# Altium schematic symbol library kmilo17pet-NSC_Interface.SchLib: 1433 symbols (part 36 of 51)
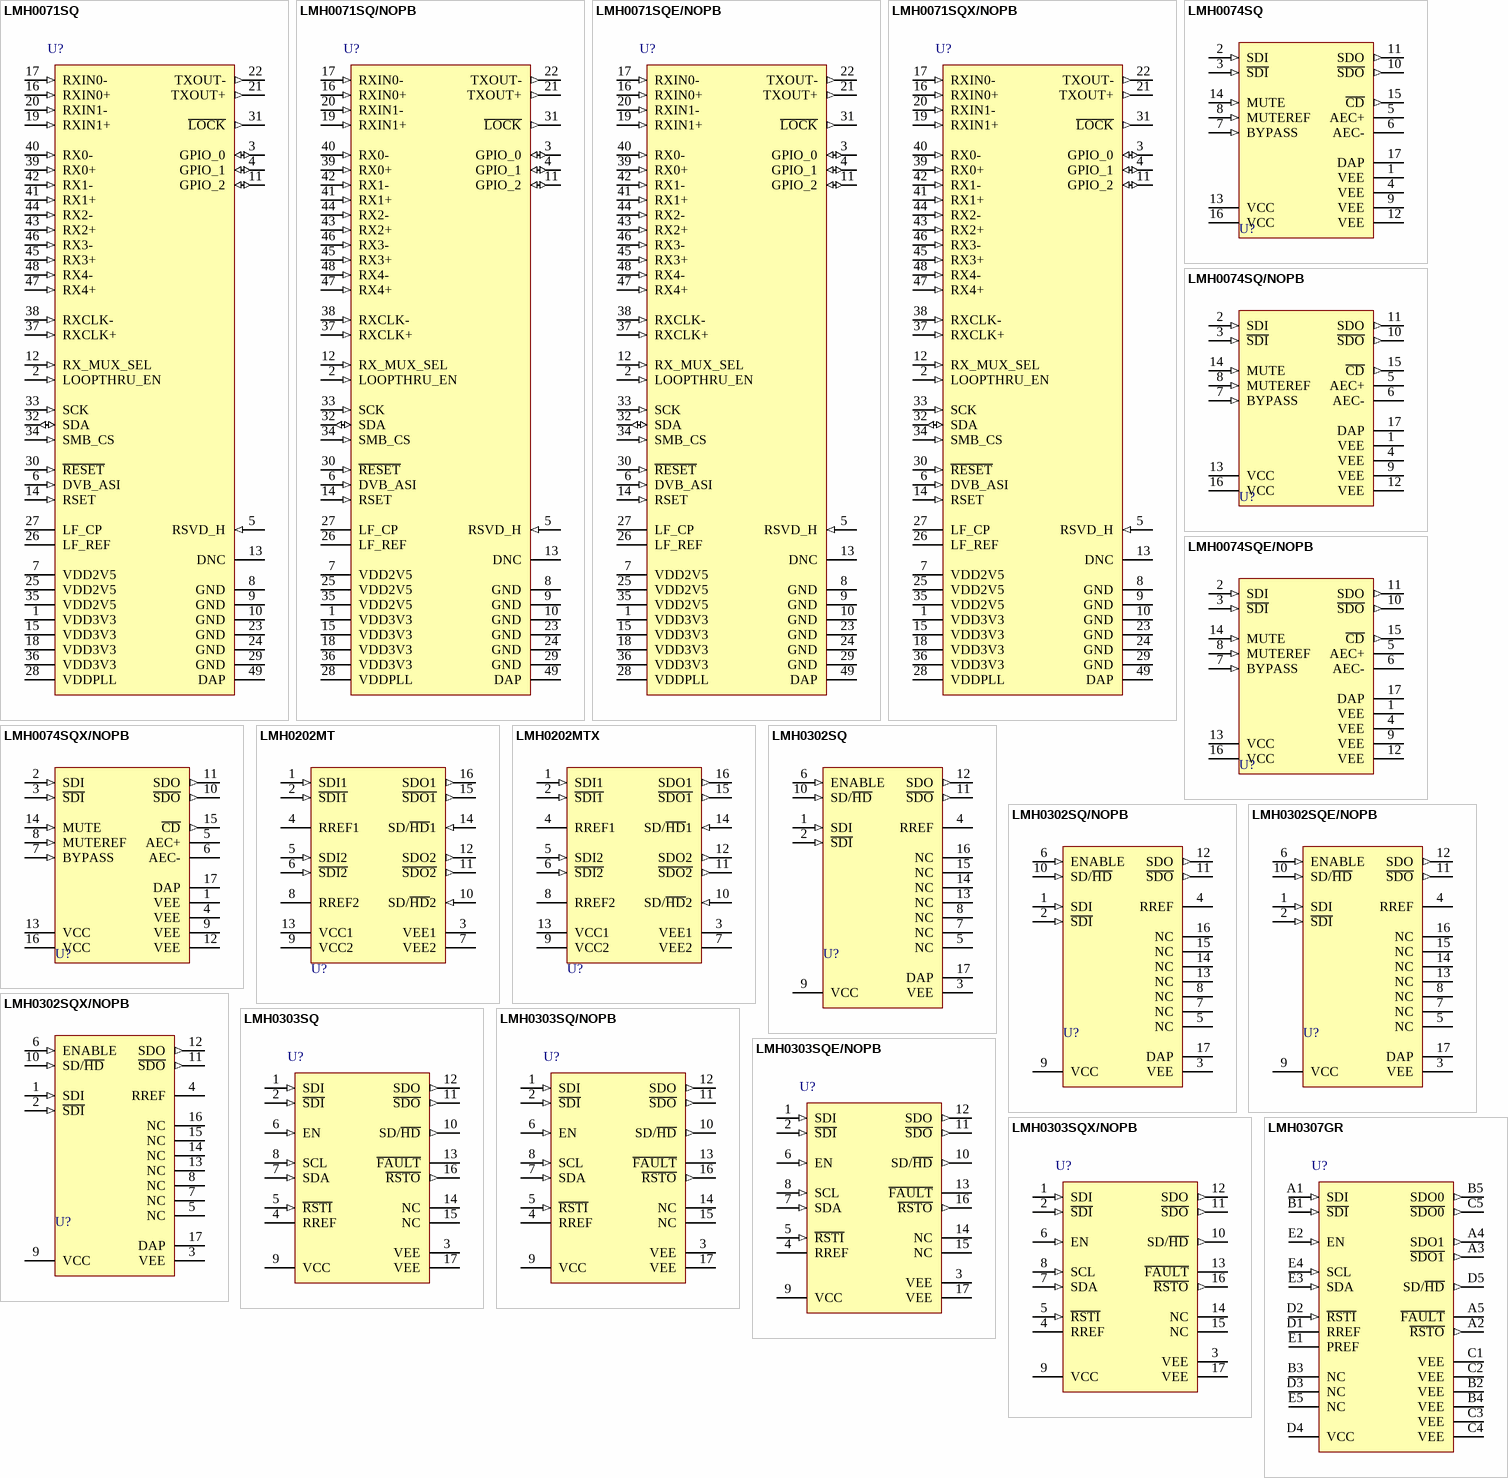
[diagram p159: symbols LMH0071SQ to LMH0307GR]

## LMH0303SQ/NOPB
designator U?
3 Gbps HD/SD SDI Cable Driver with Cable Detect, 16-pin LLP, Pb-Free; PartNumber: LMH0303SQ/NOPB; Manufacturer: National Semiconductor; PackageTopMarking: NS*UZXYTT*L0303; PowerWise: N; CompType: Interface IC; High-Reliability: Y; DatasheetVersion: Aug-2008; PackageVersion: revA, Dec-2005; PackageReference: SQB16A; PackageDescription: LLP, Plastic, Quad, 4 x 4 x 0.8mm, 16 Lead, 0.65mm Pitch, No Pullback; RoHS: Y; PinCount: 16; ComponentLink1Description: Manufacturer URL; ComponentLink1URL: http://www.national.com/; ComponentLink2Description: LMH0303 Datasheet; ComponentLink2URL: http://www.national.com/ds/LM/LMH0303.pdf; ComponentLink3Description: LMH0303 Web Page; ComponentLink3URL: http://www.national.com/pf/LM/LMH0303.html; ComponentLink4Description: SQB16A Package Page; ComponentLink4URL: http://www.national.com/packaging/folders/sqb16a.html
footprint SQB16A (QFN, 16-Leads, Body 4x4mm, Pitch 0.65mm, Thermal Pad 2.6x2.6mm, NSC Recommended)
pins: 1 SDI (in), 2 ~{SDI} (in), 3 VEE (power), 4 RREF, 5 ~{RSTI} (in), 6 EN (in), 7 SDA (in), 8 SCL (in), 9 VCC (power), 10 SD/~{HD} (out), 11 ~{SDO} (out), 12 SDO (out), 13 ~{FAULT}, 14 NC, 15 NC, 16 ~{RSTO} (out), 17 VEE (power)

## LMH0303SQE/NOPB
designator U?
3 Gbps HD/SD SDI Cable Driver with Cable Detect, 16-pin LLP, Pb-Free; PartNumber: LMH0303SQE/NOPB; Manufacturer: National Semiconductor; PackageTopMarking: NS*UZXYTT*L0303; PowerWise: N; CompType: Interface IC; High-Reliability: Y; DatasheetVersion: Aug-2008; PackageVersion: revA, Dec-2005; PackageReference: SQB16A; PackageDescription: LLP, Plastic, Quad, 4 x 4 x 0.8mm, 16 Lead, 0.65mm Pitch, No Pullback; RoHS: Y; PinCount: 16; ComponentLink1Description: Manufacturer URL; ComponentLink1URL: http://www.national.com/; ComponentLink2Description: LMH0303 Datasheet; ComponentLink2URL: http://www.national.com/ds/LM/LMH0303.pdf; ComponentLink3Description: LMH0303 Web Page; ComponentLink3URL: http://www.national.com/pf/LM/LMH0303.html; ComponentLink4Description: SQB16A Package Page; ComponentLink4URL: http://www.national.com/packaging/folders/sqb16a.html
footprint SQB16A (QFN, 16-Leads, Body 4x4mm, Pitch 0.65mm, Thermal Pad 2.6x2.6mm, NSC Recommended)
pins: 1 SDI (in), 2 ~{SDI} (in), 3 VEE (power), 4 RREF, 5 ~{RSTI} (in), 6 EN (in), 7 SDA (in), 8 SCL (in), 9 VCC (power), 10 SD/~{HD} (out), 11 ~{SDO} (out), 12 SDO (out), 13 ~{FAULT}, 14 NC, 15 NC, 16 ~{RSTO} (out), 17 VEE (power)

## LMH0303SQX/NOPB
designator U?
3 Gbps HD/SD SDI Cable Driver with Cable Detect, 16-pin LLP, Pb-Free; PartNumber: LMH0303SQX/NOPB; Manufacturer: National Semiconductor; PackageTopMarking: NS*UZXYTT*L0303; PowerWise: N; CompType: Interface IC; High-Reliability: Y; DatasheetVersion: Aug-2008; PackageVersion: revA, Dec-2005; PackageReference: SQB16A; PackageDescription: LLP, Plastic, Quad, 4 x 4 x 0.8mm, 16 Lead, 0.65mm Pitch, No Pullback; RoHS: Y; PinCount: 16; ComponentLink1Description: Manufacturer URL; ComponentLink1URL: http://www.national.com/; ComponentLink2Description: LMH0303 Datasheet; ComponentLink2URL: http://www.national.com/ds/LM/LMH0303.pdf; ComponentLink3Description: LMH0303 Web Page; ComponentLink3URL: http://www.national.com/pf/LM/LMH0303.html; ComponentLink4Description: SQB16A Package Page; ComponentLink4URL: http://www.national.com/packaging/folders/sqb16a.html
footprint SQB16A (QFN, 16-Leads, Body 4x4mm, Pitch 0.65mm, Thermal Pad 2.6x2.6mm, NSC Recommended)
pins: 1 SDI (in), 2 ~{SDI} (in), 3 VEE (power), 4 RREF, 5 ~{RSTI} (in), 6 EN (in), 7 SDA (in), 8 SCL (in), 9 VCC (power), 10 SD/~{HD} (out), 11 ~{SDO} (out), 12 SDO (out), 13 ~{FAULT}, 14 NC, 15 NC, 16 ~{RSTO} (out), 17 VEE (power)

## LMH0307GR
designator U?
3 Gbps HD/SD SDI Dual Output Cable Driver with Cable Detect, 25-pin Micro-Array; PartNumber: LMH0307GR; Manufacturer: National Semiconductor; PackageTopMarking: XYTT*307G; PowerWise: N; CompType: Interface IC; High-Reliability: Y; DatasheetVersion: Jan-2009; PackageVersion: revA, Mar-2004; PackageReference: GRA25A; PackageDescription: Micro-Array, 3x3x1mm Body, 25 Ball, 0.5mm Pitch; RoHS: Y; PinCount: 25; ComponentLink1Description: Manufacturer URL; ComponentLink1URL: http://www.national.com/; ComponentLink2Description: LMH0307 Datasheet; ComponentLink2URL: http://www.national.com/ds/LM/LMH0307.pdf; ComponentLink3Description: LMH0307 Web Page; ComponentLink3URL: http://www.national.com/pf/LM/LMH0307.html; ComponentLink4Description: GRA25A Package Page; ComponentLink4URL: http://www.national.com/packaging/folders/gra25a.html
footprint GRA25A (BGA, 25-Leads, Body 3x3mm, Pitch 0.5mm, NSC Recommended)
pins: A1 SDI (in), A2 ~{RSTO} (out), A3 ~{SDO1} (out), A4 SDO1 (out), A5 ~{FAULT}, B1 ~{SDI} (in), B2 VEE (power), B3 NC, B4 VEE (power), B5 SDO0 (out), C1 VEE (power), C2 VEE (power), C3 VEE (power), C4 VEE (power), C5 ~{SDO0} (out), D1 RREF, D2 ~{RSTI} (in), D3 NC, D4 VCC (power), D5 SD/~{HD} (out), E1 PREF, E2 EN (in), E3 SDA (in), E4 SCL (in), E5 NC

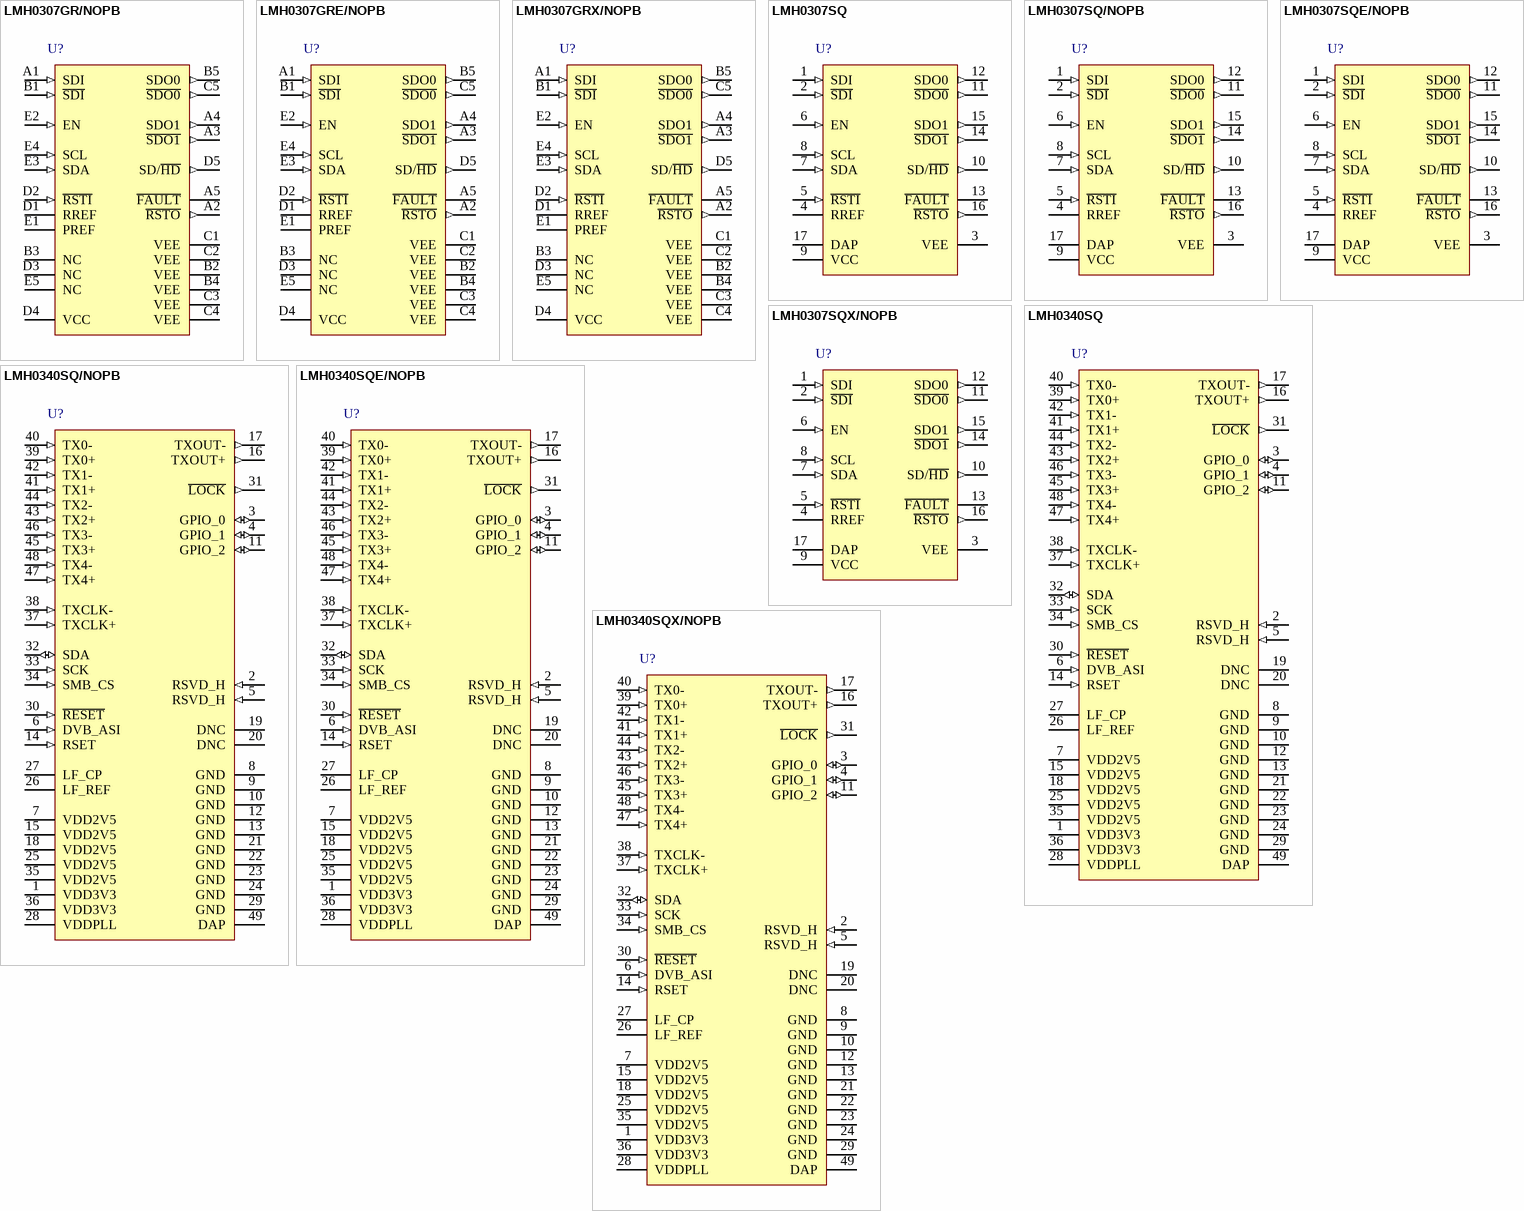
[diagram p88: symbols LMH0307GR/NOPB to LMH0340SQX/NOPB]

## LMH0307GR/NOPB
designator U?
3 Gbps HD/SD SDI Dual Output Cable Driver with Cable Detect, 25-pin Micro-Array, Pb-Free; PartNumber: LMH0307GR/NOPB; Manufacturer: National Semiconductor; PackageTopMarking: XYTT*307G; PowerWise: N; CompType: Interface IC; High-Reliability: Y; DatasheetVersion: Jan-2009; PackageVersion: revA, Mar-2004; PackageReference: GRA25A; PackageDescription: Micro-Array, 3x3x1mm Body, 25 Ball, 0.5mm Pitch; RoHS: Y; PinCount: 25; ComponentLink1Description: Manufacturer URL; ComponentLink1URL: http://www.national.com/; ComponentLink2Description: LMH0307 Datasheet; ComponentLink2URL: http://www.national.com/ds/LM/LMH0307.pdf; ComponentLink3Description: LMH0307 Web Page; ComponentLink3URL: http://www.national.com/pf/LM/LMH0307.html; ComponentLink4Description: GRA25A Package Page; ComponentLink4URL: http://www.national.com/packaging/folders/gra25a.html
footprint GRA25A (BGA, 25-Leads, Body 3x3mm, Pitch 0.5mm, NSC Recommended)
pins: A1 SDI (in), A2 ~{RSTO} (out), A3 ~{SDO1} (out), A4 SDO1 (out), A5 ~{FAULT}, B1 ~{SDI} (in), B2 VEE (power), B3 NC, B4 VEE (power), B5 SDO0 (out), C1 VEE (power), C2 VEE (power), C3 VEE (power), C4 VEE (power), C5 ~{SDO0} (out), D1 RREF, D2 ~{RSTI} (in), D3 NC, D4 VCC (power), D5 SD/~{HD} (out), E1 PREF, E2 EN (in), E3 SDA (in), E4 SCL (in), E5 NC

## LMH0307GRE/NOPB
designator U?
3 Gbps HD/SD SDI Dual Output Cable Driver with Cable Detect, 25-pin Micro-Array, Pb-Free; PartNumber: LMH0307GRE/NOPB; Manufacturer: National Semiconductor; PackageTopMarking: XYTT*307G; PowerWise: N; CompType: Interface IC; High-Reliability: Y; DatasheetVersion: Jan-2009; PackageVersion: revA, Mar-2004; PackageReference: GRA25A; PackageDescription: Micro-Array, 3x3x1mm Body, 25 Ball, 0.5mm Pitch; RoHS: Y; PinCount: 25; ComponentLink1Description: Manufacturer URL; ComponentLink1URL: http://www.national.com/; ComponentLink2Description: LMH0307 Datasheet; ComponentLink2URL: http://www.national.com/ds/LM/LMH0307.pdf; ComponentLink3Description: LMH0307 Web Page; ComponentLink3URL: http://www.national.com/pf/LM/LMH0307.html; ComponentLink4Description: GRA25A Package Page; ComponentLink4URL: http://www.national.com/packaging/folders/gra25a.html
footprint GRA25A (BGA, 25-Leads, Body 3x3mm, Pitch 0.5mm, NSC Recommended)
pins: A1 SDI (in), A2 ~{RSTO} (out), A3 ~{SDO1} (out), A4 SDO1 (out), A5 ~{FAULT}, B1 ~{SDI} (in), B2 VEE (power), B3 NC, B4 VEE (power), B5 SDO0 (out), C1 VEE (power), C2 VEE (power), C3 VEE (power), C4 VEE (power), C5 ~{SDO0} (out), D1 RREF, D2 ~{RSTI} (in), D3 NC, D4 VCC (power), D5 SD/~{HD} (out), E1 PREF, E2 EN (in), E3 SDA (in), E4 SCL (in), E5 NC

## LMH0307GRX/NOPB
designator U?
3 Gbps HD/SD SDI Dual Output Cable Driver with Cable Detect, 25-pin Micro-Array, Pb-Free; PartNumber: LMH0307GRX/NOPB; Manufacturer: National Semiconductor; PackageTopMarking: XYTT*307G; PowerWise: N; CompType: Interface IC; High-Reliability: Y; DatasheetVersion: Jan-2009; PackageVersion: revA, Mar-2004; PackageReference: GRA25A; PackageDescription: Micro-Array, 3x3x1mm Body, 25 Ball, 0.5mm Pitch; RoHS: Y; PinCount: 25; ComponentLink1Description: Manufacturer URL; ComponentLink1URL: http://www.national.com/; ComponentLink2Description: LMH0307 Datasheet; ComponentLink2URL: http://www.national.com/ds/LM/LMH0307.pdf; ComponentLink3Description: LMH0307 Web Page; ComponentLink3URL: http://www.national.com/pf/LM/LMH0307.html; ComponentLink4Description: GRA25A Package Page; ComponentLink4URL: http://www.national.com/packaging/folders/gra25a.html
footprint GRA25A (BGA, 25-Leads, Body 3x3mm, Pitch 0.5mm, NSC Recommended)
pins: A1 SDI (in), A2 ~{RSTO} (out), A3 ~{SDO1} (out), A4 SDO1 (out), A5 ~{FAULT}, B1 ~{SDI} (in), B2 VEE (power), B3 NC, B4 VEE (power), B5 SDO0 (out), C1 VEE (power), C2 VEE (power), C3 VEE (power), C4 VEE (power), C5 ~{SDO0} (out), D1 RREF, D2 ~{RSTI} (in), D3 NC, D4 VCC (power), D5 SD/~{HD} (out), E1 PREF, E2 EN (in), E3 SDA (in), E4 SCL (in), E5 NC

## LMH0307SQ
designator U?
3 Gbps HD/SD SDI Dual Output Cable Driver with Cable Detect, 16-pin LLP; PartNumber: LMH0307SQ; Manufacturer: National Semiconductor; PackageTopMarking: NS*UZXYTT*L0307; PowerWise: N; CompType: Interface IC; High-Reliability: Y; DatasheetVersion: Jan-2009; PackageVersion: revA, Dec-2005; PackageReference: SQB16A; PackageDescription: LLP, Plastic, Quad, 4 x 4 x 0.8mm, 16 Lead, 0.65mm Pitch, No Pullback; RoHS: Y; PinCount: 16; ComponentLink1Description: Manufacturer URL; ComponentLink1URL: http://www.national.com/; ComponentLink2Description: LMH0307 Datasheet; ComponentLink2URL: http://www.national.com/ds/LM/LMH0307.pdf; ComponentLink3Description: LMH0307 Web Page; ComponentLink3URL: http://www.national.com/pf/LM/LMH0307.html; ComponentLink4Description: SQB16A Package Page; ComponentLink4URL: http://www.national.com/packaging/folders/sqb16a.html
footprint SQB16A (QFN, 16-Leads, Body 4x4mm, Pitch 0.65mm, Thermal Pad 2.6x2.6mm, NSC Recommended)
pins: 1 SDI (in), 2 ~{SDI} (in), 3 VEE (power), 4 RREF, 5 ~{RSTI} (in), 6 EN (in), 7 SDA (in), 8 SCL (in), 9 VCC (power), 10 SD/~{HD} (out), 11 ~{SDO0} (out), 12 SDO0 (out), 13 ~{FAULT}, 14 ~{SDO1} (out), 15 SDO1 (out), 16 ~{RSTO} (out), 17 DAP (power)

## LMH0307SQ/NOPB
designator U?
3 Gbps HD/SD SDI Dual Output Cable Driver with Cable Detect, 16-pin LLP, Pb-Free; PartNumber: LMH0307SQ/NOPB; Manufacturer: National Semiconductor; PackageTopMarking: NS*UZXYTT*L0307; PowerWise: N; CompType: Interface IC; High-Reliability: Y; DatasheetVersion: Jan-2009; PackageVersion: revA, Dec-2005; PackageReference: SQB16A; PackageDescription: LLP, Plastic, Quad, 4 x 4 x 0.8mm, 16 Lead, 0.65mm Pitch, No Pullback; RoHS: Y; PinCount: 16; ComponentLink1Description: Manufacturer URL; ComponentLink1URL: http://www.national.com/; ComponentLink2Description: LMH0307 Datasheet; ComponentLink2URL: http://www.national.com/ds/LM/LMH0307.pdf; ComponentLink3Description: LMH0307 Web Page; ComponentLink3URL: http://www.national.com/pf/LM/LMH0307.html; ComponentLink4Description: SQB16A Package Page; ComponentLink4URL: http://www.national.com/packaging/folders/sqb16a.html
footprint SQB16A (QFN, 16-Leads, Body 4x4mm, Pitch 0.65mm, Thermal Pad 2.6x2.6mm, NSC Recommended)
pins: 1 SDI (in), 2 ~{SDI} (in), 3 VEE (power), 4 RREF, 5 ~{RSTI} (in), 6 EN (in), 7 SDA (in), 8 SCL (in), 9 VCC (power), 10 SD/~{HD} (out), 11 ~{SDO0} (out), 12 SDO0 (out), 13 ~{FAULT}, 14 ~{SDO1} (out), 15 SDO1 (out), 16 ~{RSTO} (out), 17 DAP (power)

## LMH0307SQE/NOPB
designator U?
3 Gbps HD/SD SDI Dual Output Cable Driver with Cable Detect, 16-pin LLP, Pb-Free; PartNumber: LMH0307SQE/NOPB; Manufacturer: National Semiconductor; PackageTopMarking: NS*UZXYTT*L0307; PowerWise: N; CompType: Interface IC; High-Reliability: Y; DatasheetVersion: Jan-2009; PackageVersion: revA, Dec-2005; PackageReference: SQB16A; PackageDescription: LLP, Plastic, Quad, 4 x 4 x 0.8mm, 16 Lead, 0.65mm Pitch, No Pullback; RoHS: Y; PinCount: 16; ComponentLink1Description: Manufacturer URL; ComponentLink1URL: http://www.national.com/; ComponentLink2Description: LMH0307 Datasheet; ComponentLink2URL: http://www.national.com/ds/LM/LMH0307.pdf; ComponentLink3Description: LMH0307 Web Page; ComponentLink3URL: http://www.national.com/pf/LM/LMH0307.html; ComponentLink4Description: SQB16A Package Page; ComponentLink4URL: http://www.national.com/packaging/folders/sqb16a.html
footprint SQB16A (QFN, 16-Leads, Body 4x4mm, Pitch 0.65mm, Thermal Pad 2.6x2.6mm, NSC Recommended)
pins: 1 SDI (in), 2 ~{SDI} (in), 3 VEE (power), 4 RREF, 5 ~{RSTI} (in), 6 EN (in), 7 SDA (in), 8 SCL (in), 9 VCC (power), 10 SD/~{HD} (out), 11 ~{SDO0} (out), 12 SDO0 (out), 13 ~{FAULT}, 14 ~{SDO1} (out), 15 SDO1 (out), 16 ~{RSTO} (out), 17 DAP (power)

## LMH0307SQX/NOPB
designator U?
3 Gbps HD/SD SDI Dual Output Cable Driver with Cable Detect, 16-pin LLP, Pb-Free; PartNumber: LMH0307SQX/NOPB; Manufacturer: National Semiconductor; PackageTopMarking: NS*UZXYTT*L0307; PowerWise: N; CompType: Interface IC; High-Reliability: Y; DatasheetVersion: Jan-2009; PackageVersion: revA, Dec-2005; PackageReference: SQB16A; PackageDescription: LLP, Plastic, Quad, 4 x 4 x 0.8mm, 16 Lead, 0.65mm Pitch, No Pullback; RoHS: Y; PinCount: 16; ComponentLink1Description: Manufacturer URL; ComponentLink1URL: http://www.national.com/; ComponentLink2Description: LMH0307 Datasheet; ComponentLink2URL: http://www.national.com/ds/LM/LMH0307.pdf; ComponentLink3Description: LMH0307 Web Page; ComponentLink3URL: http://www.national.com/pf/LM/LMH0307.html; ComponentLink4Description: SQB16A Package Page; ComponentLink4URL: http://www.national.com/packaging/folders/sqb16a.html
footprint SQB16A (QFN, 16-Leads, Body 4x4mm, Pitch 0.65mm, Thermal Pad 2.6x2.6mm, NSC Recommended)
pins: 1 SDI (in), 2 ~{SDI} (in), 3 VEE (power), 4 RREF, 5 ~{RSTI} (in), 6 EN (in), 7 SDA (in), 8 SCL (in), 9 VCC (power), 10 SD/~{HD} (out), 11 ~{SDO0} (out), 12 SDO0 (out), 13 ~{FAULT}, 14 ~{SDO1} (out), 15 SDO1 (out), 16 ~{RSTO} (out), 17 DAP (power)

## LMH0340SQ
designator U?
3 Gbps, HD, SD, DVB-ASI SDI Serializer and Driver with LVDS Interface, 48-pin LLP; PartNumber: LMH0340SQ; Manufacturer: National Semiconductor; PackageTopMarking: NS*UZXYTT*L0340; PowerWise: N; CompType: Interface IC; High-Reliability: Y; DatasheetVersion: Oct-2008; PackageVersion: revB, May-2009; PackageReference: SQA48A; PackageDescription: LLP, Plastic, Quad, 7 x 7 x 0.8mm Body, 48 Lead, 0.5mm Pitch, No Pullback; RoHS: Y; PinCount: 48; Code_JEDEC: MO-220-WKKD-2; ComponentLink1Description: Manufacturer URL; ComponentLink1URL: http://www.national.com/; ComponentLink2Description: LMH0340 Datasheet; ComponentLink2URL: http://www.national.com/ds/LM/LMH0340.pdf; ComponentLink3Description: LMH0340 Web Page; ComponentLink3URL: http://www.national.com/pf/LM/LMH0340.html; ComponentLink4Description: SQA48A Package Page; ComponentLink4URL: http://www.national.com/packaging/folders/sqa48a.html
footprint SQA48A (QFN, 48-Leads, Body 7x7mm, Pitch 0.5mm, Thermal Pad 5.2x5.2mm, NSC Recommended)
pins: 1 VDD3V3 (power), 2 RSVD_H (in), 3 GPIO_0 (io), 4 GPIO_1 (io), 5 RSVD_H (in), 6 DVB_ASI (in), 7 VDD2V5 (power), 8 GND (power), 9 GND (power), 10 GND (power), 11 GPIO_2 (io), 12 GND (power), 13 GND (power), 14 RSET (in), 15 VDD2V5 (power), 16 TXOUT+ (out), 17 TXOUT- (out), 18 VDD2V5 (power), 19 DNC, 20 DNC, 21 GND (power), 22 GND (power), 23 GND (power), 24 GND (power), 25 VDD2V5 (power), 26 LF_REF, 27 LF_CP, 28 VDDPLL (power), 29 GND (power), 30 ~{RESET} (in), 31 ~{LOCK} (out), 32 SDA (io), 33 SCK (in), 34 SMB_CS (in), 35 VDD2V5 (power), 36 VDD3V3 (power), 37 TXCLK+ (in), 38 TXCLK- (in), 39 TX0+ (in), 40 TX0- (in), 41 TX1+ (in), 42 TX1- (in), 43 TX2+ (in), 44 TX2- (in), 45 TX3+ (in), 46 TX3- (in), 47 TX4+ (in), 48 TX4- (in), 49 DAP (power)

## LMH0340SQ/NOPB
designator U?
3 Gbps, HD, SD, DVB-ASI SDI Serializer and Driver with LVDS Interface, 48-pin LLP, Pb-Free; PartNumber: LMH0340SQ/NOPB; Manufacturer: National Semiconductor; PackageTopMarking: NS*UZXYTTE#*L0340; PowerWise: N; CompType: Interface IC; High-Reliability: Y; DatasheetVersion: Oct-2008; PackageVersion: revB, May-2009; PackageReference: SQA48A; PackageDescription: LLP, Plastic, Quad, 7 x 7 x 0.8mm Body, 48 Lead, 0.5mm Pitch, No Pullback; RoHS: Y; PinCount: 48; Code_JEDEC: MO-220-WKKD-2; ComponentLink1Description: Manufacturer URL; ComponentLink1URL: http://www.national.com/; ComponentLink2Description: LMH0340 Datasheet; ComponentLink2URL: http://www.national.com/ds/LM/LMH0340.pdf; ComponentLink3Description: LMH0340 Web Page; ComponentLink3URL: http://www.national.com/pf/LM/LMH0340.html; ComponentLink4Description: SQA48A Package Page; ComponentLink4URL: http://www.national.com/packaging/folders/sqa48a.html
footprint SQA48A (QFN, 48-Leads, Body 7x7mm, Pitch 0.5mm, Thermal Pad 5.2x5.2mm, NSC Recommended)
pins: 1 VDD3V3 (power), 2 RSVD_H (in), 3 GPIO_0 (io), 4 GPIO_1 (io), 5 RSVD_H (in), 6 DVB_ASI (in), 7 VDD2V5 (power), 8 GND (power), 9 GND (power), 10 GND (power), 11 GPIO_2 (io), 12 GND (power), 13 GND (power), 14 RSET (in), 15 VDD2V5 (power), 16 TXOUT+ (out), 17 TXOUT- (out), 18 VDD2V5 (power), 19 DNC, 20 DNC, 21 GND (power), 22 GND (power), 23 GND (power), 24 GND (power), 25 VDD2V5 (power), 26 LF_REF, 27 LF_CP, 28 VDDPLL (power), 29 GND (power), 30 ~{RESET} (in), 31 ~{LOCK} (out), 32 SDA (io), 33 SCK (in), 34 SMB_CS (in), 35 VDD2V5 (power), 36 VDD3V3 (power), 37 TXCLK+ (in), 38 TXCLK- (in), 39 TX0+ (in), 40 TX0- (in), 41 TX1+ (in), 42 TX1- (in), 43 TX2+ (in), 44 TX2- (in), 45 TX3+ (in), 46 TX3- (in), 47 TX4+ (in), 48 TX4- (in), 49 DAP (power)

## LMH0340SQE/NOPB
designator U?
3 Gbps, HD, SD, DVB-ASI SDI Serializer and Driver with LVDS Interface, 48-pin LLP, Pb-Free; PartNumber: LMH0340SQE/NOPB; Manufacturer: National Semiconductor; PackageTopMarking: NS*UZXYTTE#*L0340; PowerWise: N; CompType: Interface IC; High-Reliability: Y; DatasheetVersion: Oct-2008; PackageVersion: revB, May-2009; PackageReference: SQA48A; PackageDescription: LLP, Plastic, Quad, 7 x 7 x 0.8mm Body, 48 Lead, 0.5mm Pitch, No Pullback; RoHS: Y; PinCount: 48; Code_JEDEC: MO-220-WKKD-2; ComponentLink1Description: Manufacturer URL; ComponentLink1URL: http://www.national.com/; ComponentLink2Description: LMH0340 Datasheet; ComponentLink2URL: http://www.national.com/ds/LM/LMH0340.pdf; ComponentLink3Description: LMH0340 Web Page; ComponentLink3URL: http://www.national.com/pf/LM/LMH0340.html; ComponentLink4Description: SQA48A Package Page; ComponentLink4URL: http://www.national.com/packaging/folders/sqa48a.html
footprint SQA48A (QFN, 48-Leads, Body 7x7mm, Pitch 0.5mm, Thermal Pad 5.2x5.2mm, NSC Recommended)
pins: 1 VDD3V3 (power), 2 RSVD_H (in), 3 GPIO_0 (io), 4 GPIO_1 (io), 5 RSVD_H (in), 6 DVB_ASI (in), 7 VDD2V5 (power), 8 GND (power), 9 GND (power), 10 GND (power), 11 GPIO_2 (io), 12 GND (power), 13 GND (power), 14 RSET (in), 15 VDD2V5 (power), 16 TXOUT+ (out), 17 TXOUT- (out), 18 VDD2V5 (power), 19 DNC, 20 DNC, 21 GND (power), 22 GND (power), 23 GND (power), 24 GND (power), 25 VDD2V5 (power), 26 LF_REF, 27 LF_CP, 28 VDDPLL (power), 29 GND (power), 30 ~{RESET} (in), 31 ~{LOCK} (out), 32 SDA (io), 33 SCK (in), 34 SMB_CS (in), 35 VDD2V5 (power), 36 VDD3V3 (power), 37 TXCLK+ (in), 38 TXCLK- (in), 39 TX0+ (in), 40 TX0- (in), 41 TX1+ (in), 42 TX1- (in), 43 TX2+ (in), 44 TX2- (in), 45 TX3+ (in), 46 TX3- (in), 47 TX4+ (in), 48 TX4- (in), 49 DAP (power)

## LMH0340SQX/NOPB
designator U?
3 Gbps, HD, SD, DVB-ASI SDI Serializer and Driver with LVDS Interface, 48-pin LLP, Pb-Free; PartNumber: LMH0340SQX/NOPB; Manufacturer: National Semiconductor; PackageTopMarking: NS*UZXYTTE#*L0340; PowerWise: N; CompType: Interface IC; High-Reliability: Y; DatasheetVersion: Oct-2008; PackageVersion: revB, May-2009; PackageReference: SQA48A; PackageDescription: LLP, Plastic, Quad, 7 x 7 x 0.8mm Body, 48 Lead, 0.5mm Pitch, No Pullback; RoHS: Y; PinCount: 48; Code_JEDEC: MO-220-WKKD-2; ComponentLink1Description: Manufacturer URL; ComponentLink1URL: http://www.national.com/; ComponentLink2Description: LMH0340 Datasheet; ComponentLink2URL: http://www.national.com/ds/LM/LMH0340.pdf; ComponentLink3Description: LMH0340 Web Page; ComponentLink3URL: http://www.national.com/pf/LM/LMH0340.html; ComponentLink4Description: SQA48A Package Page; ComponentLink4URL: http://www.national.com/packaging/folders/sqa48a.html
footprint SQA48A (QFN, 48-Leads, Body 7x7mm, Pitch 0.5mm, Thermal Pad 5.2x5.2mm, NSC Recommended)
pins: 1 VDD3V3 (power), 2 RSVD_H (in), 3 GPIO_0 (io), 4 GPIO_1 (io), 5 RSVD_H (in), 6 DVB_ASI (in), 7 VDD2V5 (power), 8 GND (power), 9 GND (power), 10 GND (power), 11 GPIO_2 (io), 12 GND (power), 13 GND (power), 14 RSET (in), 15 VDD2V5 (power), 16 TXOUT+ (out), 17 TXOUT- (out), 18 VDD2V5 (power), 19 DNC, 20 DNC, 21 GND (power), 22 GND (power), 23 GND (power), 24 GND (power), 25 VDD2V5 (power), 26 LF_REF, 27 LF_CP, 28 VDDPLL (power), 29 GND (power), 30 ~{RESET} (in), 31 ~{LOCK} (out), 32 SDA (io), 33 SCK (in), 34 SMB_CS (in), 35 VDD2V5 (power), 36 VDD3V3 (power), 37 TXCLK+ (in), 38 TXCLK- (in), 39 TX0+ (in), 40 TX0- (in), 41 TX1+ (in), 42 TX1- (in), 43 TX2+ (in), 44 TX2- (in), 45 TX3+ (in), 46 TX3- (in), 47 TX4+ (in), 48 TX4- (in), 49 DAP (power)

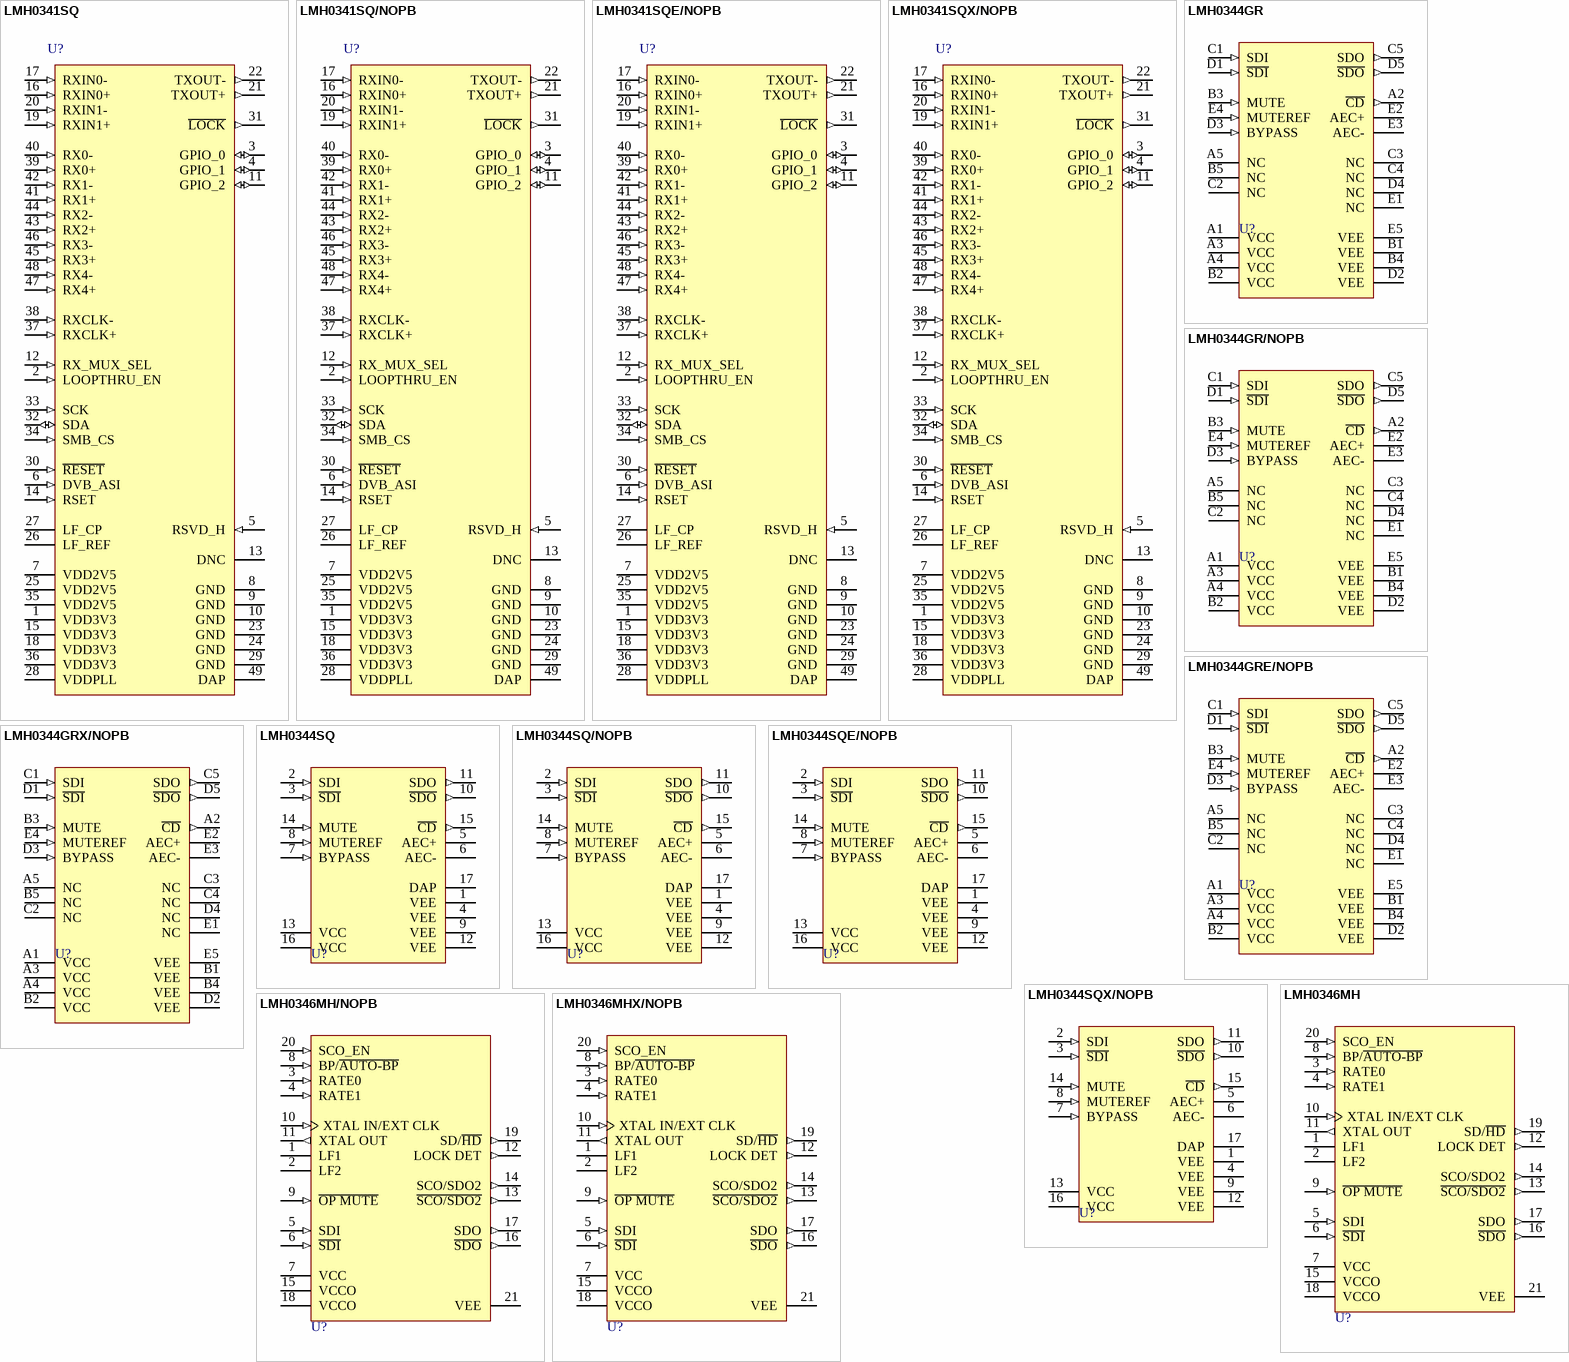
[diagram p89: symbols LMH0341SQ to LMH0346MHX/NOPB]

## LMH0341SQ
designator U?
3 Gbps, HD, SD, DVB-ASI SDI Deserializer with Loopthrough and LVDS Interface, 48-pin LLP; PartNumber: LMH0341SQ; Manufacturer: National Semiconductor; PackageTopMarking: NS*UZXYTT*L0341; PowerWise: N; CompType: Interface IC; High-Reliability: Y; DatasheetVersion: Oct-2008; PackageVersion: revB, May-2009; PackageReference: SQA48A; PackageDescription: LLP, Plastic, Quad, 7 x 7 x 0.8mm Body, 48 Lead, 0.5mm Pitch, No Pullback; RoHS: Y; PinCount: 48; Code_JEDEC: MO-220-WKKD-2; ComponentLink1Description: Manufacturer URL; ComponentLink1URL: http://www.national.com/; ComponentLink2Description: LMH0341 Datasheet; ComponentLink2URL: http://www.national.com/ds/LM/LMH0341.pdf; ComponentLink3Description: LMH0341 Web Page; ComponentLink3URL: http://www.national.com/pf/LM/LMH0341.html; ComponentLink4Description: SQA48A Package Page; ComponentLink4URL: http://www.national.com/packaging/folders/sqa48a.html
footprint SQA48A (QFN, 48-Leads, Body 7x7mm, Pitch 0.5mm, Thermal Pad 5.2x5.2mm, NSC Recommended)
pins: 1 VDD3V3 (power), 2 LOOPTHRU_EN (in), 3 GPIO_0 (io), 4 GPIO_1 (io), 5 RSVD_H (in), 6 DVB_ASI (in), 7 VDD2V5 (power), 8 GND (power), 9 GND (power), 10 GND (power), 11 GPIO_2 (io), 12 RX_MUX_SEL (in), 13 DNC, 14 RSET (in), 15 VDD3V3 (power), 16 RXIN0+ (in), 17 RXIN0- (in), 18 VDD3V3 (power), 19 RXIN1+ (in), 20 RXIN1- (in), 21 TXOUT+ (out), 22 TXOUT- (out), 23 GND (power), 24 GND (power), 25 VDD2V5 (power), 26 LF_REF, 27 LF_CP, 28 VDDPLL (power), 29 GND (power), 30 ~{RESET} (in), 31 ~{LOCK} (out), 32 SDA (io), 33 SCK (in), 34 SMB_CS (in), 35 VDD2V5 (power), 36 VDD3V3 (power), 37 RXCLK+ (in), 38 RXCLK- (in), 39 RX0+ (in), 40 RX0- (in), 41 RX1+ (in), 42 RX1- (in), 43 RX2+ (in), 44 RX2- (in), 45 RX3+ (in), 46 RX3- (in), 47 RX4+ (in), 48 RX4- (in), 49 DAP (power)

## LMH0341SQ/NOPB
designator U?
3 Gbps, HD, SD, DVB-ASI SDI Deserializer with Loopthrough and LVDS Interface, 48-pin LLP, Pb-Free; PartNumber: LMH0341SQ/NOPB; Manufacturer: National Semiconductor; PackageTopMarking: NS*UZXYTTE#*L0341; PowerWise: N; CompType: Interface IC; High-Reliability: Y; DatasheetVersion: Oct-2008; PackageVersion: revB, May-2009; PackageReference: SQA48A; PackageDescription: LLP, Plastic, Quad, 7 x 7 x 0.8mm Body, 48 Lead, 0.5mm Pitch, No Pullback; RoHS: Y; PinCount: 48; Code_JEDEC: MO-220-WKKD-2; ComponentLink1Description: Manufacturer URL; ComponentLink1URL: http://www.national.com/; ComponentLink2Description: LMH0341 Datasheet; ComponentLink2URL: http://www.national.com/ds/LM/LMH0341.pdf; ComponentLink3Description: LMH0341 Web Page; ComponentLink3URL: http://www.national.com/pf/LM/LMH0341.html; ComponentLink4Description: SQA48A Package Page; ComponentLink4URL: http://www.national.com/packaging/folders/sqa48a.html
footprint SQA48A (QFN, 48-Leads, Body 7x7mm, Pitch 0.5mm, Thermal Pad 5.2x5.2mm, NSC Recommended)
pins: 1 VDD3V3 (power), 2 LOOPTHRU_EN (in), 3 GPIO_0 (io), 4 GPIO_1 (io), 5 RSVD_H (in), 6 DVB_ASI (in), 7 VDD2V5 (power), 8 GND (power), 9 GND (power), 10 GND (power), 11 GPIO_2 (io), 12 RX_MUX_SEL (in), 13 DNC, 14 RSET (in), 15 VDD3V3 (power), 16 RXIN0+ (in), 17 RXIN0- (in), 18 VDD3V3 (power), 19 RXIN1+ (in), 20 RXIN1- (in), 21 TXOUT+ (out), 22 TXOUT- (out), 23 GND (power), 24 GND (power), 25 VDD2V5 (power), 26 LF_REF, 27 LF_CP, 28 VDDPLL (power), 29 GND (power), 30 ~{RESET} (in), 31 ~{LOCK} (out), 32 SDA (io), 33 SCK (in), 34 SMB_CS (in), 35 VDD2V5 (power), 36 VDD3V3 (power), 37 RXCLK+ (in), 38 RXCLK- (in), 39 RX0+ (in), 40 RX0- (in), 41 RX1+ (in), 42 RX1- (in), 43 RX2+ (in), 44 RX2- (in), 45 RX3+ (in), 46 RX3- (in), 47 RX4+ (in), 48 RX4- (in), 49 DAP (power)

## LMH0341SQE/NOPB
designator U?
3 Gbps, HD, SD, DVB-ASI SDI Deserializer with Loopthrough and LVDS Interface, 48-pin LLP, Pb-Free; PartNumber: LMH0341SQE/NOPB; Manufacturer: National Semiconductor; PackageTopMarking: NS*UZXYTTE#*L0341; PowerWise: N; CompType: Interface IC; High-Reliability: Y; DatasheetVersion: Oct-2008; PackageVersion: revB, May-2009; PackageReference: SQA48A; PackageDescription: LLP, Plastic, Quad, 7 x 7 x 0.8mm Body, 48 Lead, 0.5mm Pitch, No Pullback; RoHS: Y; PinCount: 48; Code_JEDEC: MO-220-WKKD-2; ComponentLink1Description: Manufacturer URL; ComponentLink1URL: http://www.national.com/; ComponentLink2Description: LMH0341 Datasheet; ComponentLink2URL: http://www.national.com/ds/LM/LMH0341.pdf; ComponentLink3Description: LMH0341 Web Page; ComponentLink3URL: http://www.national.com/pf/LM/LMH0341.html; ComponentLink4Description: SQA48A Package Page; ComponentLink4URL: http://www.national.com/packaging/folders/sqa48a.html
footprint SQA48A (QFN, 48-Leads, Body 7x7mm, Pitch 0.5mm, Thermal Pad 5.2x5.2mm, NSC Recommended)
pins: 1 VDD3V3 (power), 2 LOOPTHRU_EN (in), 3 GPIO_0 (io), 4 GPIO_1 (io), 5 RSVD_H (in), 6 DVB_ASI (in), 7 VDD2V5 (power), 8 GND (power), 9 GND (power), 10 GND (power), 11 GPIO_2 (io), 12 RX_MUX_SEL (in), 13 DNC, 14 RSET (in), 15 VDD3V3 (power), 16 RXIN0+ (in), 17 RXIN0- (in), 18 VDD3V3 (power), 19 RXIN1+ (in), 20 RXIN1- (in), 21 TXOUT+ (out), 22 TXOUT- (out), 23 GND (power), 24 GND (power), 25 VDD2V5 (power), 26 LF_REF, 27 LF_CP, 28 VDDPLL (power), 29 GND (power), 30 ~{RESET} (in), 31 ~{LOCK} (out), 32 SDA (io), 33 SCK (in), 34 SMB_CS (in), 35 VDD2V5 (power), 36 VDD3V3 (power), 37 RXCLK+ (in), 38 RXCLK- (in), 39 RX0+ (in), 40 RX0- (in), 41 RX1+ (in), 42 RX1- (in), 43 RX2+ (in), 44 RX2- (in), 45 RX3+ (in), 46 RX3- (in), 47 RX4+ (in), 48 RX4- (in), 49 DAP (power)

## LMH0341SQX/NOPB
designator U?
3 Gbps, HD, SD, DVB-ASI SDI Deserializer with Loopthrough and LVDS Interface, 48-pin LLP, Pb-Free; PartNumber: LMH0341SQX/NOPB; Manufacturer: National Semiconductor; PackageTopMarking: NS*UZXYTTE#*L0341; PowerWise: N; CompType: Interface IC; High-Reliability: Y; DatasheetVersion: Oct-2008; PackageVersion: revB, May-2009; PackageReference: SQA48A; PackageDescription: LLP, Plastic, Quad, 7 x 7 x 0.8mm Body, 48 Lead, 0.5mm Pitch, No Pullback; RoHS: Y; PinCount: 48; Code_JEDEC: MO-220-WKKD-2; ComponentLink1Description: Manufacturer URL; ComponentLink1URL: http://www.national.com/; ComponentLink2Description: LMH0341 Datasheet; ComponentLink2URL: http://www.national.com/ds/LM/LMH0341.pdf; ComponentLink3Description: LMH0341 Web Page; ComponentLink3URL: http://www.national.com/pf/LM/LMH0341.html; ComponentLink4Description: SQA48A Package Page; ComponentLink4URL: http://www.national.com/packaging/folders/sqa48a.html
footprint SQA48A (QFN, 48-Leads, Body 7x7mm, Pitch 0.5mm, Thermal Pad 5.2x5.2mm, NSC Recommended)
pins: 1 VDD3V3 (power), 2 LOOPTHRU_EN (in), 3 GPIO_0 (io), 4 GPIO_1 (io), 5 RSVD_H (in), 6 DVB_ASI (in), 7 VDD2V5 (power), 8 GND (power), 9 GND (power), 10 GND (power), 11 GPIO_2 (io), 12 RX_MUX_SEL (in), 13 DNC, 14 RSET (in), 15 VDD3V3 (power), 16 RXIN0+ (in), 17 RXIN0- (in), 18 VDD3V3 (power), 19 RXIN1+ (in), 20 RXIN1- (in), 21 TXOUT+ (out), 22 TXOUT- (out), 23 GND (power), 24 GND (power), 25 VDD2V5 (power), 26 LF_REF, 27 LF_CP, 28 VDDPLL (power), 29 GND (power), 30 ~{RESET} (in), 31 ~{LOCK} (out), 32 SDA (io), 33 SCK (in), 34 SMB_CS (in), 35 VDD2V5 (power), 36 VDD3V3 (power), 37 RXCLK+ (in), 38 RXCLK- (in), 39 RX0+ (in), 40 RX0- (in), 41 RX1+ (in), 42 RX1- (in), 43 RX2+ (in), 44 RX2- (in), 45 RX3+ (in), 46 RX3- (in), 47 RX4+ (in), 48 RX4- (in), 49 DAP (power)

## LMH0344GR
designator U?
3 Gbps HD/SD SDI Adaptive Cable Equalizer, 25-pin Micro-Array; PartNumber: LMH0344GR; Manufacturer: National Semiconductor; PackageTopMarking: XYTT*344G; PowerWise: N; CompType: Interface IC; High-Reliability: Y; DatasheetVersion: Jul-2009; PackageVersion: revA, Mar-2004; PackageReference: GRA25A; PackageDescription: Micro-Array, 3x3x1mm Body, 25 Ball, 0.5mm Pitch; RoHS: Y; PinCount: 25; ComponentLink1Description: Manufacturer URL; ComponentLink1URL: http://www.national.com/; ComponentLink2Description: LMH0344 Datasheet; ComponentLink2URL: http://www.national.com/ds/LM/LMH0344.pdf; ComponentLink3Description: LMH0344 Web Page; ComponentLink3URL: http://www.national.com/pf/LM/LMH0344.html; ComponentLink4Description: GRA25A Package Page; ComponentLink4URL: http://www.national.com/packaging/folders/gra25a.html
footprint GRA25A (BGA, 25-Leads, Body 3x3mm, Pitch 0.5mm, NSC Recommended)
pins: A1 VCC (power), A2 ~{CD} (out), A3 VCC (power), A4 VCC (power), A5 NC, B1 VEE (power), B2 VCC (power), B3 MUTE (in), B4 VEE (power), B5 NC, C1 SDI (in), C2 NC, C3 NC, C4 NC, C5 SDO (out), D1 ~{SDI} (in), D2 VEE (power), D3 BYPASS (in), D4 NC, D5 ~{SDO} (out), E1 NC, E2 AEC+, E3 AEC-, E4 MUTEREF (in), E5 VEE (power)

## LMH0344GR/NOPB
designator U?
3 Gbps HD/SD SDI Adaptive Cable Equalizer, 25-pin Micro-Array, Pb-Free; PartNumber: LMH0344GR/NOPB; Manufacturer: National Semiconductor; PackageTopMarking: XYTT*344G; PowerWise: N; CompType: Interface IC; High-Reliability: Y; DatasheetVersion: Jul-2009; PackageVersion: revA, Mar-2004; PackageReference: GRA25A; PackageDescription: Micro-Array, 3x3x1mm Body, 25 Ball, 0.5mm Pitch; RoHS: Y; PinCount: 25; ComponentLink1Description: Manufacturer URL; ComponentLink1URL: http://www.national.com/; ComponentLink2Description: LMH0344 Datasheet; ComponentLink2URL: http://www.national.com/ds/LM/LMH0344.pdf; ComponentLink3Description: LMH0344 Web Page; ComponentLink3URL: http://www.national.com/pf/LM/LMH0344.html; ComponentLink4Description: GRA25A Package Page; ComponentLink4URL: http://www.national.com/packaging/folders/gra25a.html
footprint GRA25A (BGA, 25-Leads, Body 3x3mm, Pitch 0.5mm, NSC Recommended)
pins: A1 VCC (power), A2 ~{CD} (out), A3 VCC (power), A4 VCC (power), A5 NC, B1 VEE (power), B2 VCC (power), B3 MUTE (in), B4 VEE (power), B5 NC, C1 SDI (in), C2 NC, C3 NC, C4 NC, C5 SDO (out), D1 ~{SDI} (in), D2 VEE (power), D3 BYPASS (in), D4 NC, D5 ~{SDO} (out), E1 NC, E2 AEC+, E3 AEC-, E4 MUTEREF (in), E5 VEE (power)

## LMH0344GRE/NOPB
designator U?
3 Gbps HD/SD SDI Adaptive Cable Equalizer, 25-pin Micro-Array, Pb-Free; PartNumber: LMH0344GRE/NOPB; Manufacturer: National Semiconductor; PackageTopMarking: XYTT*344G; PowerWise: N; CompType: Interface IC; High-Reliability: Y; DatasheetVersion: Jul-2009; PackageVersion: revA, Mar-2004; PackageReference: GRA25A; PackageDescription: Micro-Array, 3x3x1mm Body, 25 Ball, 0.5mm Pitch; RoHS: Y; PinCount: 25; ComponentLink1Description: Manufacturer URL; ComponentLink1URL: http://www.national.com/; ComponentLink2Description: LMH0344 Datasheet; ComponentLink2URL: http://www.national.com/ds/LM/LMH0344.pdf; ComponentLink3Description: LMH0344 Web Page; ComponentLink3URL: http://www.national.com/pf/LM/LMH0344.html; ComponentLink4Description: GRA25A Package Page; ComponentLink4URL: http://www.national.com/packaging/folders/gra25a.html
footprint GRA25A (BGA, 25-Leads, Body 3x3mm, Pitch 0.5mm, NSC Recommended)
pins: A1 VCC (power), A2 ~{CD} (out), A3 VCC (power), A4 VCC (power), A5 NC, B1 VEE (power), B2 VCC (power), B3 MUTE (in), B4 VEE (power), B5 NC, C1 SDI (in), C2 NC, C3 NC, C4 NC, C5 SDO (out), D1 ~{SDI} (in), D2 VEE (power), D3 BYPASS (in), D4 NC, D5 ~{SDO} (out), E1 NC, E2 AEC+, E3 AEC-, E4 MUTEREF (in), E5 VEE (power)

## LMH0344GRX/NOPB
designator U?
3 Gbps HD/SD SDI Adaptive Cable Equalizer, 25-pin Micro-Array, Pb-Free; PartNumber: LMH0344GRX/NOPB; Manufacturer: National Semiconductor; PackageTopMarking: XYTT*344G; PowerWise: N; CompType: Interface IC; High-Reliability: Y; DatasheetVersion: Jul-2009; PackageVersion: revA, Mar-2004; PackageReference: GRA25A; PackageDescription: Micro-Array, 3x3x1mm Body, 25 Ball, 0.5mm Pitch; RoHS: Y; PinCount: 25; ComponentLink1Description: Manufacturer URL; ComponentLink1URL: http://www.national.com/; ComponentLink2Description: LMH0344 Datasheet; ComponentLink2URL: http://www.national.com/ds/LM/LMH0344.pdf; ComponentLink3Description: LMH0344 Web Page; ComponentLink3URL: http://www.national.com/pf/LM/LMH0344.html; ComponentLink4Description: GRA25A Package Page; ComponentLink4URL: http://www.national.com/packaging/folders/gra25a.html
footprint GRA25A (BGA, 25-Leads, Body 3x3mm, Pitch 0.5mm, NSC Recommended)
pins: A1 VCC (power), A2 ~{CD} (out), A3 VCC (power), A4 VCC (power), A5 NC, B1 VEE (power), B2 VCC (power), B3 MUTE (in), B4 VEE (power), B5 NC, C1 SDI (in), C2 NC, C3 NC, C4 NC, C5 SDO (out), D1 ~{SDI} (in), D2 VEE (power), D3 BYPASS (in), D4 NC, D5 ~{SDO} (out), E1 NC, E2 AEC+, E3 AEC-, E4 MUTEREF (in), E5 VEE (power)

## LMH0344SQ
designator U?
3 Gbps HD/SD SDI Adaptive Cable Equalizer, 16-pin LLP; PartNumber: LMH0344SQ; Manufacturer: National Semiconductor; PackageTopMarking: NS*UZXYTT*L0344; PowerWise: N; CompType: Interface IC; High-Reliability: Y; DatasheetVersion: Jul-2009; PackageVersion: revA, Dec-2005; PackageReference: SQB16A; PackageDescription: LLP, Plastic, Quad, 4 x 4 x 0.8mm, 16 Lead, 0.65mm Pitch, No Pullback; RoHS: Y; PinCount: 16; ComponentLink1Description: Manufacturer URL; ComponentLink1URL: http://www.national.com/; ComponentLink2Description: LMH0344 Datasheet; ComponentLink2URL: http://www.national.com/ds/LM/LMH0344.pdf; ComponentLink3Description: LMH0344 Web Page; ComponentLink3URL: http://www.national.com/pf/LM/LMH0344.html; ComponentLink4Description: SQB16A Package Page; ComponentLink4URL: http://www.national.com/packaging/folders/sqb16a.html
footprint SQB16A (QFN, 16-Leads, Body 4x4mm, Pitch 0.65mm, Thermal Pad 2.6x2.6mm, NSC Recommended)
pins: 1 VEE (power), 2 SDI (in), 3 ~{SDI} (in), 4 VEE (power), 5 AEC+, 6 AEC-, 7 BYPASS (in), 8 MUTEREF (in), 9 VEE (power), 10 ~{SDO} (out), 11 SDO (out), 12 VEE (power), 13 VCC (power), 14 MUTE (in), 15 ~{CD} (out), 16 VCC (power), 17 DAP (power)

## LMH0344SQ/NOPB
designator U?
3 Gbps HD/SD SDI Adaptive Cable Equalizer, 16-pin LLP, Pb-Free; PartNumber: LMH0344SQ/NOPB; Manufacturer: National Semiconductor; PackageTopMarking: NS*UZXYTT*L0344; PowerWise: N; CompType: Interface IC; High-Reliability: Y; DatasheetVersion: Jul-2009; PackageVersion: revA, Dec-2005; PackageReference: SQB16A; PackageDescription: LLP, Plastic, Quad, 4 x 4 x 0.8mm, 16 Lead, 0.65mm Pitch, No Pullback; RoHS: Y; PinCount: 16; ComponentLink1Description: Manufacturer URL; ComponentLink1URL: http://www.national.com/; ComponentLink2Description: LMH0344 Datasheet; ComponentLink2URL: http://www.national.com/ds/LM/LMH0344.pdf; ComponentLink3Description: LMH0344 Web Page; ComponentLink3URL: http://www.national.com/pf/LM/LMH0344.html; ComponentLink4Description: SQB16A Package Page; ComponentLink4URL: http://www.national.com/packaging/folders/sqb16a.html
footprint SQB16A (QFN, 16-Leads, Body 4x4mm, Pitch 0.65mm, Thermal Pad 2.6x2.6mm, NSC Recommended)
pins: 1 VEE (power), 2 SDI (in), 3 ~{SDI} (in), 4 VEE (power), 5 AEC+, 6 AEC-, 7 BYPASS (in), 8 MUTEREF (in), 9 VEE (power), 10 ~{SDO} (out), 11 SDO (out), 12 VEE (power), 13 VCC (power), 14 MUTE (in), 15 ~{CD} (out), 16 VCC (power), 17 DAP (power)

## LMH0344SQE/NOPB
designator U?
3 Gbps HD/SD SDI Adaptive Cable Equalizer, 16-pin LLP, Pb-Free; PartNumber: LMH0344SQE/NOPB; Manufacturer: National Semiconductor; PackageTopMarking: NS*UZXYTT*L0344; PowerWise: N; CompType: Interface IC; High-Reliability: Y; DatasheetVersion: Jul-2009; PackageVersion: revA, Dec-2005; PackageReference: SQB16A; PackageDescription: LLP, Plastic, Quad, 4 x 4 x 0.8mm, 16 Lead, 0.65mm Pitch, No Pullback; RoHS: Y; PinCount: 16; ComponentLink1Description: Manufacturer URL; ComponentLink1URL: http://www.national.com/; ComponentLink2Description: LMH0344 Datasheet; ComponentLink2URL: http://www.national.com/ds/LM/LMH0344.pdf; ComponentLink3Description: LMH0344 Web Page; ComponentLink3URL: http://www.national.com/pf/LM/LMH0344.html; ComponentLink4Description: SQB16A Package Page; ComponentLink4URL: http://www.national.com/packaging/folders/sqb16a.html
footprint SQB16A (QFN, 16-Leads, Body 4x4mm, Pitch 0.65mm, Thermal Pad 2.6x2.6mm, NSC Recommended)
pins: 1 VEE (power), 2 SDI (in), 3 ~{SDI} (in), 4 VEE (power), 5 AEC+, 6 AEC-, 7 BYPASS (in), 8 MUTEREF (in), 9 VEE (power), 10 ~{SDO} (out), 11 SDO (out), 12 VEE (power), 13 VCC (power), 14 MUTE (in), 15 ~{CD} (out), 16 VCC (power), 17 DAP (power)

## LMH0344SQX/NOPB
designator U?
3 Gbps HD/SD SDI Adaptive Cable Equalizer, 16-pin LLP, Pb-Free; PartNumber: LMH0344SQX/NOPB; Manufacturer: National Semiconductor; PackageTopMarking: NS*UZXYTT*L0344; PowerWise: N; CompType: Interface IC; High-Reliability: Y; DatasheetVersion: Jul-2009; PackageVersion: revA, Dec-2005; PackageReference: SQB16A; PackageDescription: LLP, Plastic, Quad, 4 x 4 x 0.8mm, 16 Lead, 0.65mm Pitch, No Pullback; RoHS: Y; PinCount: 16; ComponentLink1Description: Manufacturer URL; ComponentLink1URL: http://www.national.com/; ComponentLink2Description: LMH0344 Datasheet; ComponentLink2URL: http://www.national.com/ds/LM/LMH0344.pdf; ComponentLink3Description: LMH0344 Web Page; ComponentLink3URL: http://www.national.com/pf/LM/LMH0344.html; ComponentLink4Description: SQB16A Package Page; ComponentLink4URL: http://www.national.com/packaging/folders/sqb16a.html
footprint SQB16A (QFN, 16-Leads, Body 4x4mm, Pitch 0.65mm, Thermal Pad 2.6x2.6mm, NSC Recommended)
pins: 1 VEE (power), 2 SDI (in), 3 ~{SDI} (in), 4 VEE (power), 5 AEC+, 6 AEC-, 7 BYPASS (in), 8 MUTEREF (in), 9 VEE (power), 10 ~{SDO} (out), 11 SDO (out), 12 VEE (power), 13 VCC (power), 14 MUTE (in), 15 ~{CD} (out), 16 VCC (power), 17 DAP (power)

## LMH0346MH
designator U?
3 Gbps HD/SD SDI Reclocker with Dual Differential Outputs, 20-pin TSSOP-EP; PartNumber: LMH0346MH; Manufacturer: National Semiconductor; PackageTopMarking: NSUZXYTT*L0346; PowerWise: N; CompType: Interface IC; High-Reliability: Y; DatasheetVersion: Nov-2009; PackageVersion: revC, Jul-2006; PackageReference: MXA20A; PackageDescription: Molded TSSOP, Jedec, 6.5 x 4.4 x 0.9mm Body, 20 Lead, 0.65mm Pitch, Exposed Pad; RoHS: Y; PinCount: 20; Code_JEDEC: MO-153-ACT; ComponentLink1Description: Manufacturer URL; ComponentLink1URL: http://www.national.com/; ComponentLink2Description: LMH0346 Datasheet; ComponentLink2URL: http://www.national.com/ds/LM/LMH0346.pdf; ComponentLink3Description: LMH0346 Web Page; ComponentLink3URL: http://www.national.com/pf/LM/LMH0346.html; ComponentLink4Description: MXA20A Package Page; ComponentLink4URL: http://www.national.com/packaging/folders/mxa20a.html
footprint MXA20A_N (TSOP, 20-Leads, Body 6.5x4.4mm, Pitch 0.65mm, Thermal Pad, IPC Medium Density)
footprint MXA20A_L (TSOP, 20-Leads, Body 6.5x4.4mm, Pitch 0.65mm, Thermal Pad, IPC High Density)
footprint MXA20A_M (TSOP, 20-Leads, Body 6.5x4.4mm, Pitch 0.65mm, Thermal Pad, IPC Low Density)
pins: 1 LF1, 2 LF2, 3 RATE0 (in), 4 RATE1 (in), 5 SDI (in), 6 ~{SDI} (in), 7 VCC (power), 8 BP/~{AUTO-BP} (in), 9 ~{OP MUTE} (in), 10 XTAL IN/EXT CLK (in), 11 XTAL OUT (out), 12 LOCK DET (out), 13 ~{SCO/SDO2} (out), 14 SCO/SDO2 (out), 15 VCCO (power), 16 ~{SDO} (out), 17 SDO (out), 18 VCCO (power), 19 SD/~{HD} (out), 20 SCO_EN (in), 21 VEE (power)

## LMH0346MH/NOPB
designator U?
3 Gbps HD/SD SDI Reclocker with Dual Differential Outputs, 20-pin TSSOP-EP, Pb-Free; PartNumber: LMH0346MH/NOPB; Manufacturer: National Semiconductor; PackageTopMarking: NSUZXYTT*L0346; PowerWise: N; CompType: Interface IC; High-Reliability: Y; DatasheetVersion: Nov-2009; PackageVersion: revC, Jul-2006; PackageReference: MXA20A; PackageDescription: Molded TSSOP, Jedec, 6.5 x 4.4 x 0.9mm Body, 20 Lead, 0.65mm Pitch, Exposed Pad; RoHS: Y; PinCount: 20; Code_JEDEC: MO-153-ACT; ComponentLink1Description: Manufacturer URL; ComponentLink1URL: http://www.national.com/; ComponentLink2Description: LMH0346 Datasheet; ComponentLink2URL: http://www.national.com/ds/LM/LMH0346.pdf; ComponentLink3Description: LMH0346 Web Page; ComponentLink3URL: http://www.national.com/pf/LM/LMH0346.html; ComponentLink4Description: MXA20A Package Page; ComponentLink4URL: http://www.national.com/packaging/folders/mxa20a.html
footprint MXA20A_N (TSOP, 20-Leads, Body 6.5x4.4mm, Pitch 0.65mm, Thermal Pad, IPC Medium Density)
footprint MXA20A_L (TSOP, 20-Leads, Body 6.5x4.4mm, Pitch 0.65mm, Thermal Pad, IPC High Density)
footprint MXA20A_M (TSOP, 20-Leads, Body 6.5x4.4mm, Pitch 0.65mm, Thermal Pad, IPC Low Density)
pins: 1 LF1, 2 LF2, 3 RATE0 (in), 4 RATE1 (in), 5 SDI (in), 6 ~{SDI} (in), 7 VCC (power), 8 BP/~{AUTO-BP} (in), 9 ~{OP MUTE} (in), 10 XTAL IN/EXT CLK (in), 11 XTAL OUT (out), 12 LOCK DET (out), 13 ~{SCO/SDO2} (out), 14 SCO/SDO2 (out), 15 VCCO (power), 16 ~{SDO} (out), 17 SDO (out), 18 VCCO (power), 19 SD/~{HD} (out), 20 SCO_EN (in), 21 VEE (power)

## LMH0346MHX/NOPB
designator U?
3 Gbps HD/SD SDI Reclocker with Dual Differential Outputs, 20-pin TSSOP-EP, Pb-Free; PartNumber: LMH0346MHX/NOPB; Manufacturer: National Semiconductor; PackageTopMarking: NSUZXYTT*L0346; PowerWise: N; CompType: Interface IC; High-Reliability: Y; DatasheetVersion: Nov-2009; PackageVersion: revC, Jul-2006; PackageReference: MXA20A; PackageDescription: Molded TSSOP, Jedec, 6.5 x 4.4 x 0.9mm Body, 20 Lead, 0.65mm Pitch, Exposed Pad; RoHS: Y; PinCount: 20; Code_JEDEC: MO-153-ACT; ComponentLink1Description: Manufacturer URL; ComponentLink1URL: http://www.national.com/; ComponentLink2Description: LMH0346 Datasheet; ComponentLink2URL: http://www.national.com/ds/LM/LMH0346.pdf; ComponentLink3Description: LMH0346 Web Page; ComponentLink3URL: http://www.national.com/pf/LM/LMH0346.html; ComponentLink4Description: MXA20A Package Page; ComponentLink4URL: http://www.national.com/packaging/folders/mxa20a.html
footprint MXA20A_N (TSOP, 20-Leads, Body 6.5x4.4mm, Pitch 0.65mm, Thermal Pad, IPC Medium Density)
footprint MXA20A_L (TSOP, 20-Leads, Body 6.5x4.4mm, Pitch 0.65mm, Thermal Pad, IPC High Density)
footprint MXA20A_M (TSOP, 20-Leads, Body 6.5x4.4mm, Pitch 0.65mm, Thermal Pad, IPC Low Density)
pins: 1 LF1, 2 LF2, 3 RATE0 (in), 4 RATE1 (in), 5 SDI (in), 6 ~{SDI} (in), 7 VCC (power), 8 BP/~{AUTO-BP} (in), 9 ~{OP MUTE} (in), 10 XTAL IN/EXT CLK (in), 11 XTAL OUT (out), 12 LOCK DET (out), 13 ~{SCO/SDO2} (out), 14 SCO/SDO2 (out), 15 VCCO (power), 16 ~{SDO} (out), 17 SDO (out), 18 VCCO (power), 19 SD/~{HD} (out), 20 SCO_EN (in), 21 VEE (power)

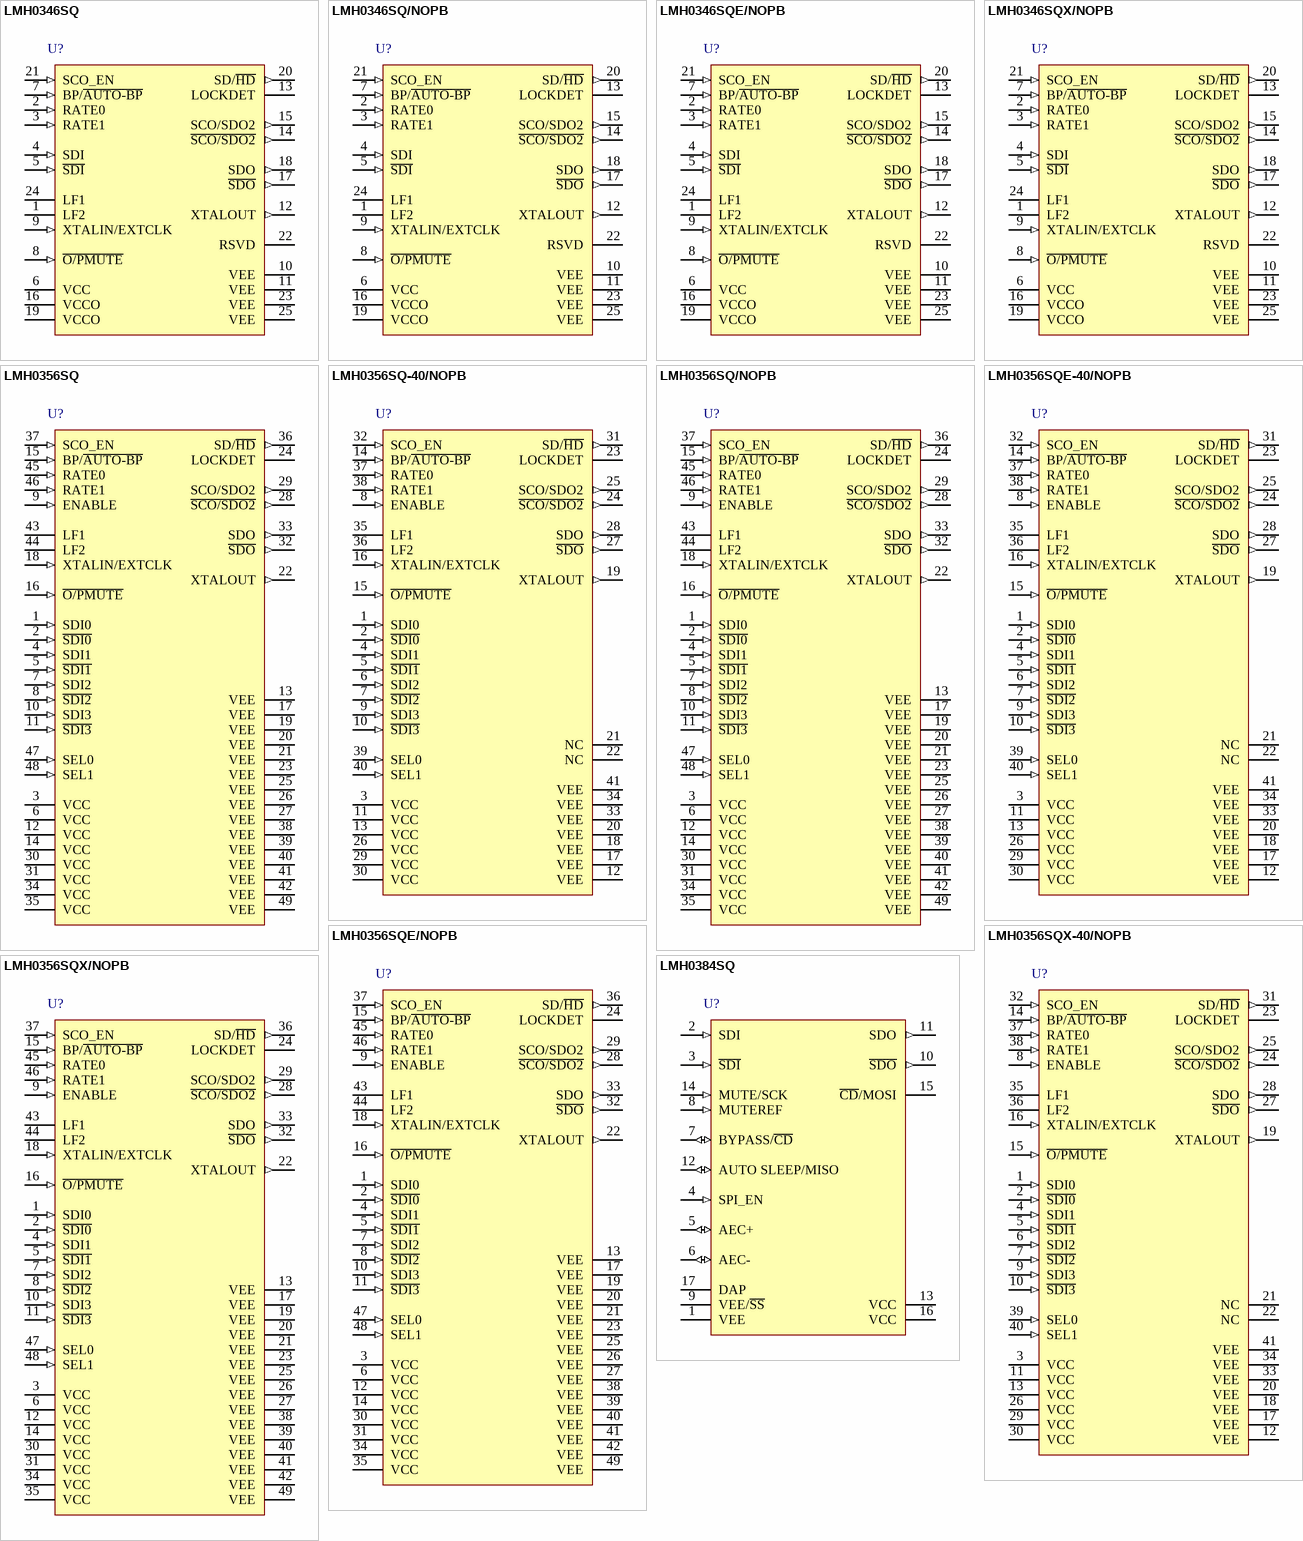
[diagram p90: symbols LMH0346SQ to LMH0384SQ]

## LMH0346SQ
designator U?
3 Gbps HD/SD SDI Reclocker with Dual Differential Outputs, 24-pin LLP; PartNumber: LMH0346SQ; Manufacturer: National Semiconductor; PackageTopMarking: NS*UZXYTT*L0346SQ; PowerWise: N; CompType: Interface IC; High-Reliability: Y; DatasheetVersion: Nov-2009; PackageVersion: revA, Oct-2003; PackageReference: SQA24B; PackageDescription: LLP, Plastic, Quad, 5 x 4 x 0.8mm Body, 24 Lead, 0.5mm Pitch, No Pullback; RoHS: Y; PinCount: 24; Code_JEDEC: MO-220-WGHD-1; ComponentLink1Description: Manufacturer URL; ComponentLink1URL: http://www.national.com/; ComponentLink2Description: LMH0346 Datasheet; ComponentLink2URL: http://www.national.com/ds/LM/LMH0346.pdf; ComponentLink3Description: LMH0346 Web Page; ComponentLink3URL: http://www.national.com/pf/LM/LMH0346.html; ComponentLink4Description: SQA24B Package Page; ComponentLink4URL: http://www.national.com/packaging/folders/sqa24b.html
footprint SQA24B (QFN, 24-Leads, Body 5x4mm, Pitch 0.5mm, NSC Recommended)
pins: 1 LF2, 2 RATE0 (in), 3 RATE1 (in), 4 SDI (in), 5 ~{SDI} (in), 6 VCC (power), 7 BP/~{AUTO-BP} (in), 8 ~{O/PMUTE} (in), 9 XTALIN/EXTCLK (in), 10 VEE (power), 11 VEE (power), 12 XTALOUT (out), 13 LOCKDET, 14 ~{SCO/SDO2} (out), 15 SCO/SDO2 (out), 16 VCCO (power), 17 ~{SDO} (out), 18 SDO (out), 19 VCCO (power), 20 SD/~{HD} (out), 21 SCO_EN (in), 22 RSVD, 23 VEE (power), 24 LF1, 25 VEE (power)

## LMH0346SQ/NOPB
designator U?
3 Gbps HD/SD SDI Reclocker with Dual Differential Outputs, 24-pin LLP, Pb-Free; PartNumber: LMH0346SQ/NOPB; Manufacturer: National Semiconductor; PackageTopMarking: NS*UZXYTT*L0346SQ; PowerWise: N; CompType: Interface IC; High-Reliability: Y; DatasheetVersion: Nov-2009; PackageVersion: revA, Oct-2003; PackageReference: SQA24B; PackageDescription: LLP, Plastic, Quad, 5 x 4 x 0.8mm Body, 24 Lead, 0.5mm Pitch, No Pullback; RoHS: Y; PinCount: 24; Code_JEDEC: MO-220-WGHD-1; ComponentLink1Description: Manufacturer URL; ComponentLink1URL: http://www.national.com/; ComponentLink2Description: LMH0346 Datasheet; ComponentLink2URL: http://www.national.com/ds/LM/LMH0346.pdf; ComponentLink3Description: LMH0346 Web Page; ComponentLink3URL: http://www.national.com/pf/LM/LMH0346.html; ComponentLink4Description: SQA24B Package Page; ComponentLink4URL: http://www.national.com/packaging/folders/sqa24b.html
footprint SQA24B (QFN, 24-Leads, Body 5x4mm, Pitch 0.5mm, NSC Recommended)
pins: 1 LF2, 2 RATE0 (in), 3 RATE1 (in), 4 SDI (in), 5 ~{SDI} (in), 6 VCC (power), 7 BP/~{AUTO-BP} (in), 8 ~{O/PMUTE} (in), 9 XTALIN/EXTCLK (in), 10 VEE (power), 11 VEE (power), 12 XTALOUT (out), 13 LOCKDET, 14 ~{SCO/SDO2} (out), 15 SCO/SDO2 (out), 16 VCCO (power), 17 ~{SDO} (out), 18 SDO (out), 19 VCCO (power), 20 SD/~{HD} (out), 21 SCO_EN (in), 22 RSVD, 23 VEE (power), 24 LF1, 25 VEE (power)

## LMH0346SQE/NOPB
designator U?
3 Gbps HD/SD SDI Reclocker with Dual Differential Outputs, 24-pin LLP, Pb-Free; PartNumber: LMH0346SQE/NOPB; Manufacturer: National Semiconductor; PackageTopMarking: NS*UZXYTT*L0346SQ; PowerWise: N; CompType: Interface IC; High-Reliability: Y; DatasheetVersion: Nov-2009; PackageVersion: revA, Oct-2003; PackageReference: SQA24B; PackageDescription: LLP, Plastic, Quad, 5 x 4 x 0.8mm Body, 24 Lead, 0.5mm Pitch, No Pullback; RoHS: Y; PinCount: 24; Code_JEDEC: MO-220-WGHD-1; ComponentLink1Description: Manufacturer URL; ComponentLink1URL: http://www.national.com/; ComponentLink2Description: LMH0346 Datasheet; ComponentLink2URL: http://www.national.com/ds/LM/LMH0346.pdf; ComponentLink3Description: LMH0346 Web Page; ComponentLink3URL: http://www.national.com/pf/LM/LMH0346.html; ComponentLink4Description: SQA24B Package Page; ComponentLink4URL: http://www.national.com/packaging/folders/sqa24b.html
footprint SQA24B (QFN, 24-Leads, Body 5x4mm, Pitch 0.5mm, NSC Recommended)
pins: 1 LF2, 2 RATE0 (in), 3 RATE1 (in), 4 SDI (in), 5 ~{SDI} (in), 6 VCC (power), 7 BP/~{AUTO-BP} (in), 8 ~{O/PMUTE} (in), 9 XTALIN/EXTCLK (in), 10 VEE (power), 11 VEE (power), 12 XTALOUT (out), 13 LOCKDET, 14 ~{SCO/SDO2} (out), 15 SCO/SDO2 (out), 16 VCCO (power), 17 ~{SDO} (out), 18 SDO (out), 19 VCCO (power), 20 SD/~{HD} (out), 21 SCO_EN (in), 22 RSVD, 23 VEE (power), 24 LF1, 25 VEE (power)

## LMH0346SQX/NOPB
designator U?
3 Gbps HD/SD SDI Reclocker with Dual Differential Outputs, 24-pin LLP, Pb-Free; PartNumber: LMH0346SQX/NOPB; Manufacturer: National Semiconductor; PackageTopMarking: NS*UZXYTT*L0346SQ; PowerWise: N; CompType: Interface IC; High-Reliability: Y; DatasheetVersion: Nov-2009; PackageVersion: revA, Oct-2003; PackageReference: SQA24B; PackageDescription: LLP, Plastic, Quad, 5 x 4 x 0.8mm Body, 24 Lead, 0.5mm Pitch, No Pullback; RoHS: Y; PinCount: 24; Code_JEDEC: MO-220-WGHD-1; ComponentLink1Description: Manufacturer URL; ComponentLink1URL: http://www.national.com/; ComponentLink2Description: LMH0346 Datasheet; ComponentLink2URL: http://www.national.com/ds/LM/LMH0346.pdf; ComponentLink3Description: LMH0346 Web Page; ComponentLink3URL: http://www.national.com/pf/LM/LMH0346.html; ComponentLink4Description: SQA24B Package Page; ComponentLink4URL: http://www.national.com/packaging/folders/sqa24b.html
footprint SQA24B (QFN, 24-Leads, Body 5x4mm, Pitch 0.5mm, NSC Recommended)
pins: 1 LF2, 2 RATE0 (in), 3 RATE1 (in), 4 SDI (in), 5 ~{SDI} (in), 6 VCC (power), 7 BP/~{AUTO-BP} (in), 8 ~{O/PMUTE} (in), 9 XTALIN/EXTCLK (in), 10 VEE (power), 11 VEE (power), 12 XTALOUT (out), 13 LOCKDET, 14 ~{SCO/SDO2} (out), 15 SCO/SDO2 (out), 16 VCCO (power), 17 ~{SDO} (out), 18 SDO (out), 19 VCCO (power), 20 SD/~{HD} (out), 21 SCO_EN (in), 22 RSVD, 23 VEE (power), 24 LF1, 25 VEE (power)